# EAGLE library part 3DR_433MHZ_MODULE (library tera-boards)
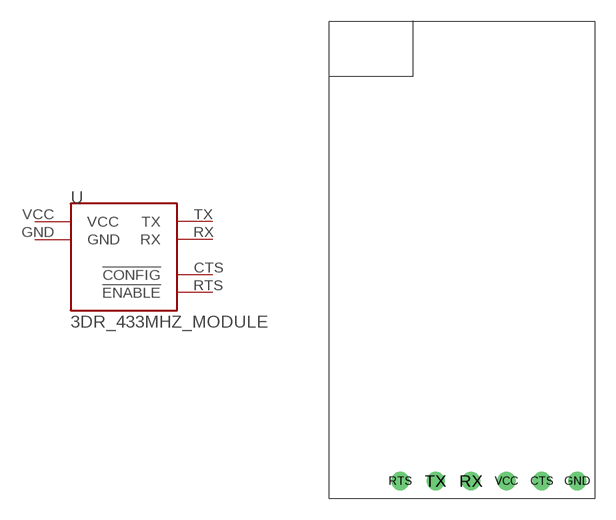
[diagram p1: symbol with the pads of 3DR_433MHZ_MODULE; footprint 3DR_433MHZ_MODULE]

Designator prefix -

## 3DR_433MHZ_MODULE  [3DR_433MHZ_MODULE]
CTS  !CONFIG  in
GND  GND  sup
RTS  !ENABLE  in
RX  RX
TX  TX
VCC  VCC  pwr

## Footprint 3DR_433MHZ_MODULE (pad centres in mm)
drill 0.8: CTS 15.24,1.27; GND 17.78,1.27; RTS 5.08,1.27; RX 10.16,1.27; TX 7.62,1.27; VCC 12.7,1.27